# EAGLE library part IF_USBC_MUX_HD3SS460 (library !GPLIB_ACTIVE)
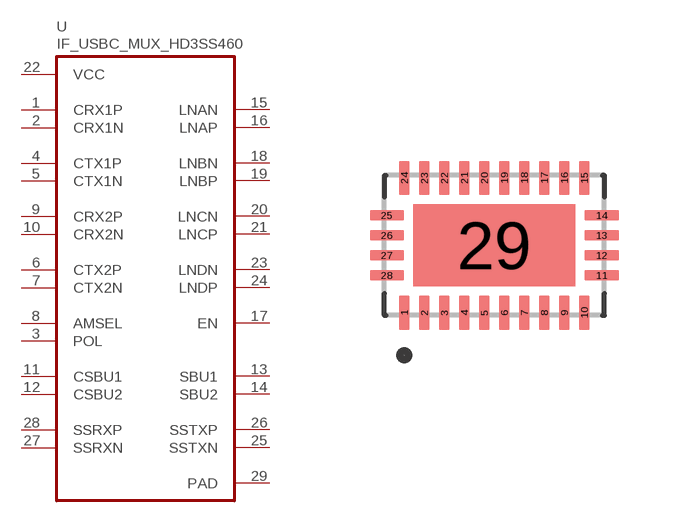
[diagram p5: symbol with the pads of QFN50P550X350X80-29N; footprint QFN50P550X350X80-29N]

Designator prefix U

## IF_USBC_MUX_HD3SS460_HD3SS460RHRT  [QFN50P550X350X80-29N]
1  CRX1P
2  CRX1N
3  POL  in
4  CTX1P
5  CTX1N
6  CTX2P
7  CTX2N
8  AMSEL  in
9  CRX2P
10  CRX2N
11  CSBU1
12  CSBU2
13  SBU1
14  SBU2
15  LNAN
16  LNAP
17  EN  in
18  LNBN
19  LNBP
20  LNCN
21  LNCP
22  VCC  pwr
23  LNDN
24  LNDP
25  SSTXN
26  SSTXP
27  SSRXN
28  SSRXP
29  PAD  pwr

## Footprint QFN50P550X350X80-29N (pad centres in mm)
smd 0.27 x 0.86: 1 -2.25,-1.685; 2 -1.75,-1.685; 3 -1.25,-1.685; 4 -0.75,-1.685; 5 -0.25,-1.685; 6 0.25,-1.685; 7 0.75,-1.685; 8 1.25,-1.685; 9 1.75,-1.685; 10 2.25,-1.685; 15 2.25,1.685; 16 1.75,1.685; 17 1.25,1.685; 18 0.75,1.685; 19 0.25,1.685; 20 -0.25,1.685; 21 -0.75,1.685; 22 -1.25,1.685; 23 -1.75,1.685; 24 -2.25,1.685
smd 0.86 x 0.27: 11 2.685,-0.75; 12 2.685,-0.25; 13 2.685,0.25; 14 2.685,0.75; 25 -2.685,0.75; 26 -2.685,0.25; 27 -2.685,-0.25; 28 -2.685,-0.75
smd 4.05 x 2.05: 29 0,0